# Altium schematic symbol library my lib1.SCHLIB: 13 symbols
Pins are listed as number, name and electrical type; pins without a type are passive.

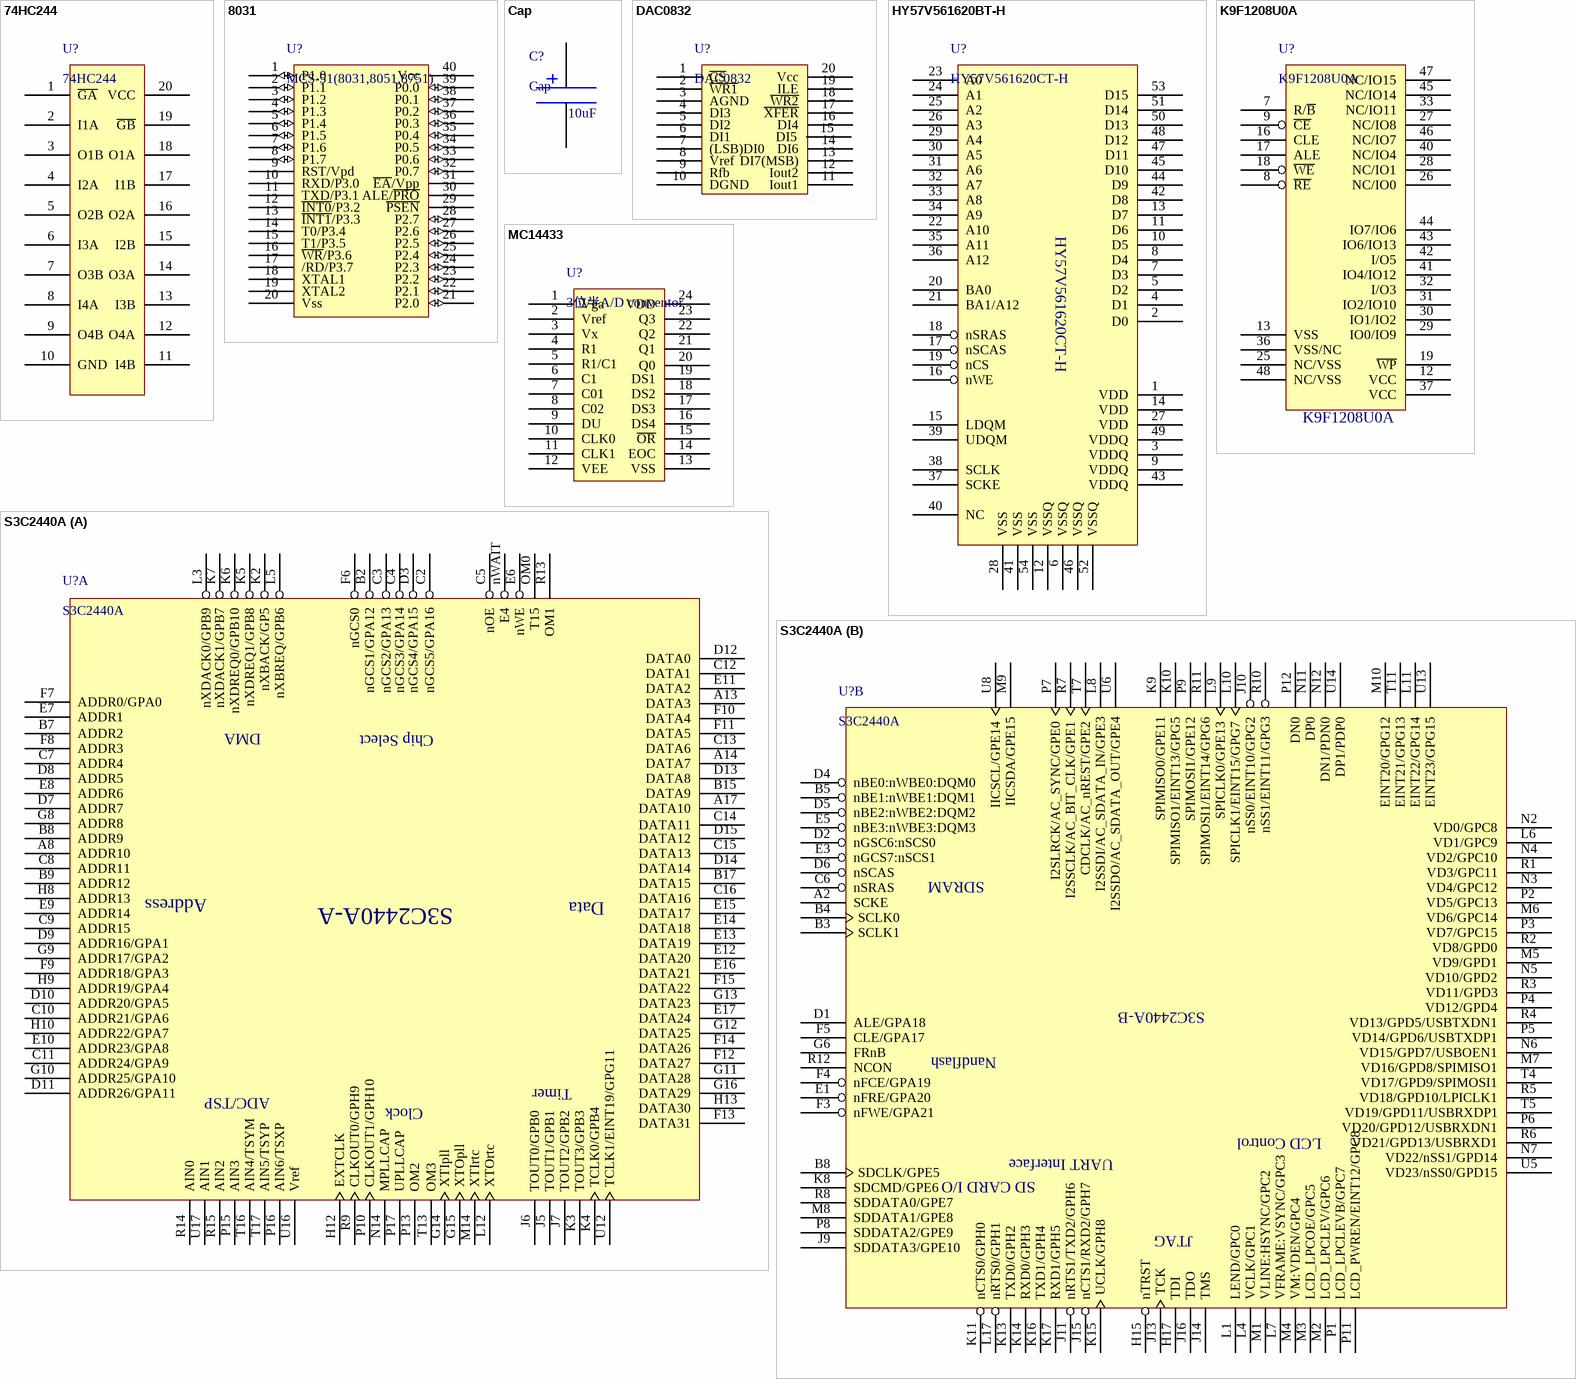
[diagram p0: symbols 74HC244 to S3C2440A]

## 74HC244
designator U?
footprint 74HC244
footprint 74HC244
pins: 1 ~{GA}, 2 I1A, 3 O1B, 4 I2A, 5 O2B, 6 I3A, 7 O3B, 8 I4A, 9 O4B, 10 GND (power), 11 I4B, 12 O4A, 13 I3B, 14 O3A, 15 I2B, 16 O2A, 17 I1B, 18 O1A, 19 ~{GB}, 20 VCC (power)

## 8031
designator U?, comment MCS-51(8031,8051,8751)
footprint DIP40
pins: 1 P1.0 (io), 2 P1.1 (io), 3 P1.2 (io), 4 P1.3 (io), 5 P1.4 (io), 6 P1.5 (io), 7 P1.6 (io), 8 P1.7 (io), 9 RST/Vpd, 10 RXD/P3.0, 11 TXD/P3.1, 12 ~{INT0}/P3.2, 13 ~{INT1}/P3.3, 14 T0/P3.4, 15 T1/P3.5, 16 ~{WR}/P3.6, 17 /RD/P3.7, 18 XTAL1, 19 XTAL2, 20 Vss (power), 21 P2.0 (io), 22 P2.1 (io), 23 P2.2 (io), 24 P2.3 (io), 25 P2.4 (io), 26 P2.5 (io), 27 P2.6 (io), 28 P2.7 (io), 29 ~{PSEN}, 30 ALE/~{PRO}, 31 ~{EA}/Vpp, 32 P0.7 (io), 33 P0.6 (io), 34 P0.5 (io), 35 P0.4 (io), 36 P0.3 (io), 37 P0.2 (io), 38 P0.1 (io), 39 P0.0 (io), 40 Vcc (power)

## Cap
designator C?
footprint cap
pins: 1, 2
text: 10uF

## DAC0832
designator U?
footprint DAC0832
pins: 1 ~{CS}, 2 ~{WR1}, 3 AGND, 4 DI3, 5 DI2, 6 DI1, 7 (LSB)DI0, 8 Vref, 9 Rfb, 10 DGND (power), 11 Iout1, 12 Iout2, 13 DI7(MSB), 14 DI6, 15 DI5, 16 DI4, 17 ~{XFER}, 18 ~{WR2}, 19 ILE, 20 Vcc (power)

## HY57V561620BT-H
designator U?, comment HY57V561620CT-H
pins: 1 VDD, 2 D0, 3 VDDQ, 4 D1, 5 D2, 6 VSSQ, 7 D3, 8 D4, 9 VDDQ, 10 D5, 11 D6, 12 VSSQ, 13 D7, 14 VDD, 15 LDQM, 16 nWE, 17 nSCAS, 18 nSRAS, 19 nCS, 20 BA0, 21 BA1/A12, 22 A10, 23 A0, 24 A1, 25 A2, 26 A3, 27 VDD, 28 VSS, 29 A4, 30 A5, 31 A6, 32 A7, 33 A8, 34 A9, 35 A11, 36 A12, 37 SCKE, 38 SCLK, 39 UDQM, 40 NC, 41 VSS, 42 D8, 43 VDDQ, 44 D9, 45 D10, 46 VSSQ, 47 D11, 48 D12, 49 VDDQ, 50 D13, 51 D14, 52 VSSQ, 53 D15, 54 VSS

## K9F1208U0A
designator U?
pins: 7 R/~{B}, 8 ~{RE}, 9 ~{CE}, 12 VCC, 13 VSS, 16 CLE, 17 ALE, 18 ~{WE}, 19 ~{WP}, 25 NC/VSS, 26 NC/IO0, 27 NC/IO8, 28 NC/IO1, 29 IO0/IO9, 30 IO1/IO2, 31 IO2/IO10, 32 I/O3, 33 NC/IO11, 36 VSS/NC, 37 VCC, 40 NC/IO4, 41 IO4/IO12, 42 I/O5, 43 IO6/IO13, 44 IO7/IO6, 45 NC/IO14, 46 NC/IO7, 47 NC/IO15, 48 NC/VSS

## MC14433
designator U?, comment 3位半A/D conventor
footprint DIP-28N
pins: 1 Vga, 2 Vref, 3 Vx, 4 R1, 5 R1/C1, 6 C1, 7 C01, 8 C02, 9 DU, 10 CLK0, 11 CLK1, 12 VEE (power), 13 VSS, 14 EOC, 15 ~{OR}, 16 DS4, 17 DS3, 18 DS2, 19 DS1, 20 Q0, 21 Q1, 22 Q2, 23 Q3, 24 VDD (power)

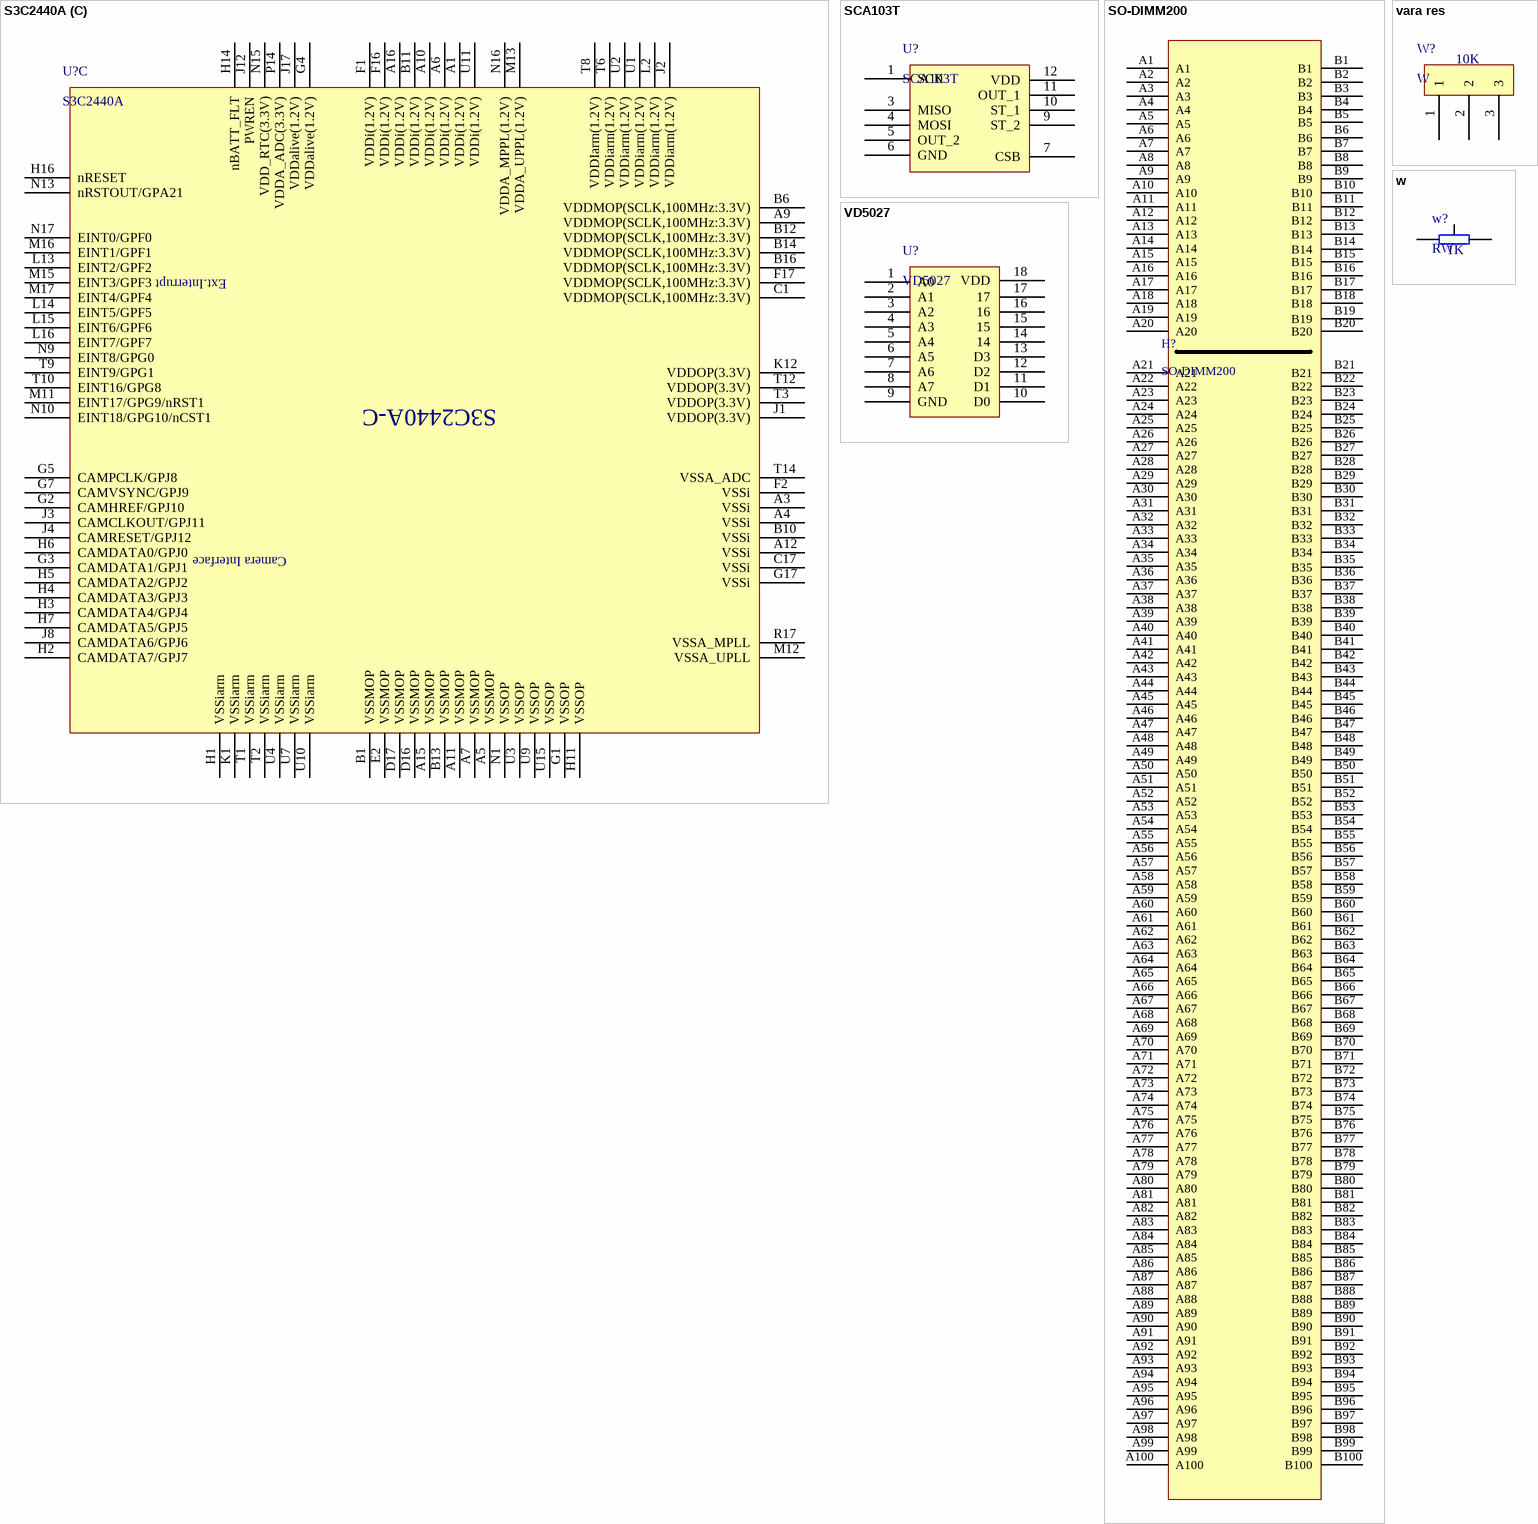
[diagram p1: symbols S3C2440A to w]

## S3C2440A
designator U?
footprint 289-FBGA-1414
part A pins: A8 ADDR10, A13 DATA3, A14 DATA7, A17 DATA10, B2 nGCS1/GPA12, B7 ADDR2, B8 ADDR9, B9 ADDR12, B15 DATA9, B17 DATA15, C2 nGCS5/GPA16, C3 nGCS2/GPA13, C4 nGCS3/GPA14, C5 nOE, C7 ADDR4, C8 ADDR11, C9 ADDR15, C10 ADDR21/GPA6, C11 ADDR24/GPA9, C12 DATA1, C13 DATA6, C14 DATA11, C15 DATA13, C16 DATA16, D3 nGCS4/GPA15, D7 ADDR7, D8 ADDR5, D9 ADDR16/GPA1, D10 ADDR20/GPA5, D11 ADDR26/GPA11, D12 DATA0, D13 DATA8, D14 DATA14, D15 DATA12, E6 nWE, E7 ADDR1, E8 ADDR6, E9 ADDR14, E10 ADDR23/GPA8, E11 DATA2, E12 DATA20, E13 DATA19, E14 DATA18, E15 DATA17, E16 DATA21, E17 DATA24, F6 nGCS0, F7 ADDR0/GPA0, F8 ADDR3, F9 ADDR18/GPA3, F10 DATA4, F11 DATA5, F12 DATA27, F13 DATA31, F14 DATA26, F15 DATA22, G8 ADDR8, G9 ADDR17/GPA2, G10 ADDR25/GPA10, G11 DATA28, G12 DATA25, G13 DATA23, G14 XTIpll, G15 XTOpll, G16 DATA29, H8 ADDR13, H9 ADDR19/GPA4, H10 ADDR22/GPA7, H12 EXTCLK, H13 DATA30, J5 TOUT1/GPB1, J6 TOUT0/GPB0, J7 TOUT2/GPB2, K2 nXBACK/GP5, K3 TOUT3/GPB3, K4 TCLK0/GPB4, K5 nXDREQ1/GPB8, K6 nXDREQ0/GPB10, K7 nXDACK1/GPB7, L3 nXDACK0/GPB9, L5 nXBREQ/GPB6, L12 XTOrtc, M14 XTIrtc, N14 MPLLCAP, nWAIT E4, OM0 T15, P10 CLKOUT1/GPH10, P13 OM2, P15 AIN3, P16 AIN6/TSXP, P17 UPLLCAP, R9 CLKOUT0/GPH9, R13 OM1, R14 AIN0, R15 AIN2, T13 OM3, T16 AIN4/TSYM, T17 AIN5/TSYP, U12 TCLK1/EINT19/GPG11, U16 Vref, U17 AIN1
part B pins: A2 SCKE, B3 SCLK1, B4 SCLK0, B5 nBE1:nWBE1:DQM1, B8 SDCLK/GPE5, C6 nSRAS, D1 ALE/GPA18, D2 nGSC6:nSCS0, D4 nBE0:nWBE0:DQM0, D5 nBE2:nWBE2:DQM2, D6 nSCAS, E1 nFRE/GPA20, E3 nGCS7:nSCS1, E5 nBE3:nWBE3:DQM3, F3 nFWE/GPA21, F4 nFCE/GPA19, F5 CLE/GPA17, G6 FRnB, H15 nTRST, H17 TDI, J9 SDDATA3/GPE10, J10 nSS0/EINT10/GPG2, J11 nRTS1/TXD2/GPH6, J13 TCK, J14 TMS, J15 nCTS1/RXD2/GPH7, J16 TDO, K8 SDCMD/GPE6, K9 SPIMISO0/GPE11, K10 SPIMISO1/EINT13/GPG5, K11 nCTS0/GPH0, K13 TXD0/GPH2, K14 RXD0/GPH3, K15 UCLK/GPH8, K16 TXD1/GPH4, K17 RXD1/GPH5, L1 LEND/GPC0, L4 VCLK/GPC1, L6 VD1/GPC9, L7 VFRAME:VSYNC/GPC3, L8 I2SSDI/AC_SDATA_IN/GPE3, L9 SPICLK0/GPE13, L10 SPICLK1/EINT15/GPG7, L11 EINT22/GPG14, L17 nRTS0/GPH1, M1 VLINE:HSYNC/GPC2, M2 LCD_LPCLEV/GPC6, M3 LCD_LPCOE/GPC5, M4 VM:VDEN/GPC4, M5 VD9/GPD1, M6 VD6/GPC14, M7 VD16/GPD8/SPIMISO1, M8 SDDATA1/GPE8, M9 IICSDA/GPE15, M10 EINT20/GPG12, N2 VD0/GPC8, N3 VD4/GPC12, N4 VD2/GPC10, N5 VD10/GPD2, N6 VD15/GPD7/USBOEN1, N7 VD22/nSS1/GPD14, N11 DP0, N12 DN1/PDN0, P1 LCD_LPCLEVB/GPC7, P2 VD5/GPC13, P3 VD7/GPC15, P4 VD12/GPD4, P5 VD14/GPD6/USBTXDP1, P6 VD20/GPD12/USBRXDN1, P7 I2SLRCK/AC_SYNC/GPE0, P8 SDDATA2/GPE9, P9 SPIMOSI1/GPE12, P11 LCD_PWREN/EINT12/GPC8, P12 DN0, R1 VD3/GPC11, R2 VD8/GPD0, R3 VD11/GPD3, R4 VD13/GPD5/USBTXDN1, R5 VD18/GPD10/LPICLK1, R6 VD21/GPD13/USBRXD1, R7 I2SSCLK/AC_BIT_CLK/GPE1, R8 SDDATA0/GPE7, R10 nSS1/EINT11/GPG3, R11 SPIMOSI1/EINT14/GPG6, R12 NCON, T4 VD17/GPD9/SPIMOSI1, T5 VD19/GPD11/USBRXDP1, T7 CDCLK/AC_nREST/GPE2, T11 EINT21/GPG13, U5 VD23/nSS0/GPD15, U6 I2SSDO/AC_SDATA_OUT/GPE4, U8 IICSCL/GPE14, U13 EINT23/GPG15, U14 DP1/PDP0
part C pins: A1 VDDi(1.2V), A3 VSSi, A4 VSSi, A5 VSSMOP, A6 VDDi(1.2V), A7 VSSMOP, A9 VDDMOP(SCLK,100MHz:3.3V), A10 VDDi(1.2V), A11 VSSMOP, A12 VSSi, A15 VSSMOP, A16 VDDi(1.2V), B1 VSSMOP, B6 VDDMOP(SCLK,100MHz:3.3V), B10 VSSi, B11 VDDi(1.2V), B12 VDDMOP(SCLK,100MHz:3.3V), B13 VSSMOP, B14 VDDMOP(SCLK,100MHz:3.3V), B16 VDDMOP(SCLK,100MHz:3.3V), C1 VDDMOP(SCLK,100MHz:3.3V), C17 VSSi, D16 VSSMOP, D17 VSSMOP, E2 VSSMOP, F1 VDDi(1.2V), F2 VSSi, F16 VDDi(1.2V), F17 VDDMOP(SCLK,100MHz:3.3V), G1 VSSOP, G2 CAMHREF/GPJ10, G3 CAMDATA1/GPJ1, G4 VDDalive(1.2V), G5 CAMPCLK/GPJ8, G7 CAMVSYNC/GPJ9, G17 VSSi, H1 VSSiarm, H2 CAMDATA7/GPJ7, H3 CAMDATA4/GPJ4, H4 CAMDATA3/GPJ3, H5 CAMDATA2/GPJ2, H6 CAMDATA0/GPJ0, H7 CAMDATA5/GPJ5, H11 VSSOP, H14 nBATT_FLT, H16 nRESET, J1 VDDOP(3.3V), J2 VDDiarm(1.2V), J3 CAMCLKOUT/GPJ11, J4 CAMRESET/GPJ12, J8 CAMDATA6/GPJ6, J12 PWREN, J17 VDDalive(1.2V), K1 VSSiarm, K12 VDDOP(3.3V), L2 VDDiarm(1.2V), L13 EINT2/GPF2, L14 EINT5/GPF5, L15 EINT6/GPF6, L16 EINT7/GPF7, M11 EINT17/GPG9/nRST1, M12 VSSA_UPLL, M13 VDDA_UPPL(1.2V), M15 EINT3/GPF3, M16 EINT1/GPF1, M17 EINT4/GPF4, N1 VSSOP, N9 EINT8/GPG0, N10 EINT18/GPG10/nCST1, N13 nRSTOUT/GPA21, N15 VDD_RTC(3.3V), N16 VDDA_MPPL(1.2V), N17 EINT0/GPF0, P14 VDDA_ADC(3.3V), R17 VSSA_MPLL, T1 VSSiarm, T2 VSSiarm, T3 VDDOP(3.3V), T6 VDDiarm(1.2V), T8 VDDIarm(1.2V), T9 EINT9/GPG1, T10 EINT16/GPG8, T12 VDDOP(3.3V), T14 VSSA_ADC, U1 VDDiarm(1.2V), U2 VDDiarm(1.2V), U3 VSSOP, U4 VSSiarm, U7 VSSiarm, U9 VSSOP, U10 VSSiarm, U11 VDDi(1.2V), U15 VSSOP
part A text: DMA; Chip Select; Address; Data; S3C2440A-A; Timer; ADC/TSP; Clock
part B text: SDRAM; S3C2440A-B; Nandflash; LCD Control; UART Interface; SD CARD I/O; JTAG
part C text: Ext.Interrupt; S3C2440A-C; Camera Interface

## SCA103T
designator U?
footprint SCA103T
footprint SCA103T (Inclinometer)
pins: 1 SCK, 3 MISO, 4 MOSI, 5 OUT_2, 6 GND (power), 7 CSB, 9 ST_2, 10 ST_1, 11 OUT_1, 12 VDD (power), ?1 hidden, ?2 8 hidden

## SO-DIMM200
designator H?
footprint SO-DIMM200(socket)
footprint SO-DIMM200
pins: A1, A2, A3, A4, A5, A6, A7, A8, A9, A10, A11, A12, A13, A14, A15, A16, A17, A18, A19, A20, A21, A22, A23, A24, A25, A26, A27, A28, A29, A30, A31, A32, A33, A34, A35, A36, A37, A38, A39, A40, A41, A42, A43, A44, A45, A46, A47, A48, A49, A50, A51, A52, A53, A54, A55, A56, A57, A58, A59, A60, A61, A62, A63, A64, A65, A66, A67, A68, A69, A70, A71, A72, A73, A74, A75, A76, A77, A78, A79, A80, A81, A82, A83, A84, A85, A86, A87, A88, A89, A90, A91, A92, A93, A94, A95, A96, A97, A98, A99, A100, B1, B2, B3, B4, B5, B6, B7, B8, B9, B10, B11, B12, B13, B14, B15, B16, B17, B18, B19, B20, B21, B22, B23, B24, B25, B26, B27, B28, B29, B30, B31, B32, B33, B34, B35, B36, B37, B38, B39, B40, B41, B42, B43, B44, B45, B46, B47, B48, B49, B50, B51, B52, B53, B54, B55, B56, B57, B58, B59, B60, B61, B62, B63, B64, B65, B66, B67, B68, B69, B70, B71, B72, B73, B74, B75, B76, B77, B78, B79, B80, B81, B82, B83, B84, B85, B86, B87, B88, B89, B90, B91, B92, B93, B94, B95, B96, B97, B98, B99, B100

## vara res
designator W?, comment W
footprint w (vara resistor)
pins: 1, 2, 3
text: 10K

## VD5027
designator U?
footprint VD5027
pins: 1 A0, 2 A1, 3 A2, 4 A3, 5 A4, 6 A5, 7 A6, 8 A7, 9 GND, 10 D0, 11 D1, 12 D2, 13 D3, 14, 15, 16, 17, 18 VDD

## w
designator w?, comment RW
footprint w (vara resistor)
pins: 1, 2, 3
text: 1K